# Altium footprint library PcbLib1.PcbLib: 4 footprints
Each footprint in its own frame and in the unit in brackets; x right, y up, seen from the top. Pads: shape width x height; smd on the part's side, far side on the other; paste and mask are expansions set on the pad; w line width, h text height; cw(c..) or ccw(c..) is an arc to the next point about the centre after c.
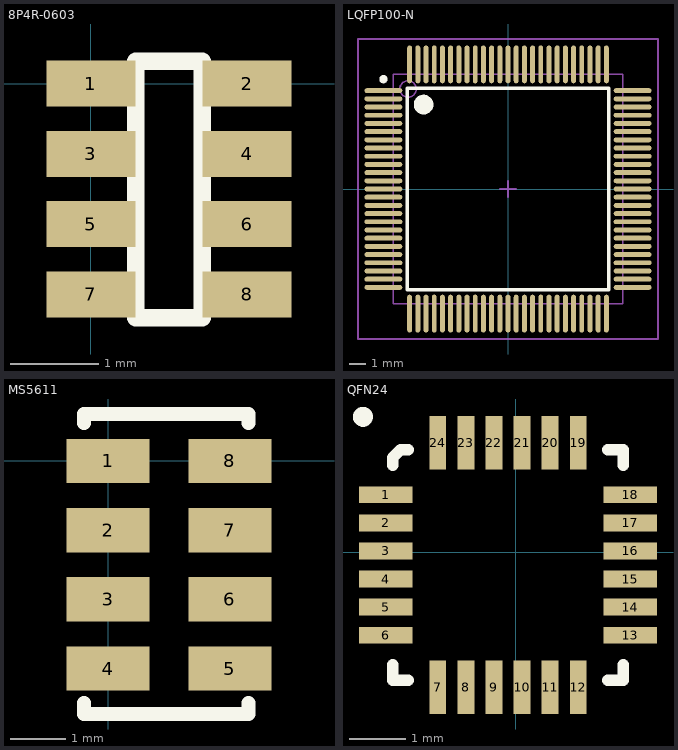
[diagram p0: the footprints below, top view; thin cyan lines are the x and y axes]

## 8P4R-0603 [mil]
pads (8):
  rect 40x20.62 smd: 1(0,0) 2(70,0) 3(0,-31.5) 4(70,-31.5) 5(0,-62.99) 6(70,-62.99) 7(0,-94.49) 8(70,-94.49)
Top Overlay:
  lines w7.87: 20,-105 50,-105 50,10 20,10 20,-105

## LQFP100-N [mm]
pads (100):
  oval 2.303x0.3 smd: 1(-7.6,6) 2(-7.6,5.5) 3(-7.6,5) 4(-7.6,4.5) 5(-7.6,4) 6(-7.6,3.5) 7(-7.6,3) 8(-7.6,2.5) 9(-7.6,2) 10(-7.6,1.5) 11(-7.6,1) 12(-7.6,0.5) 13(-7.6,0) 14(-7.6,-0.5) 15(-7.6,-1) 16(-7.6,-1.5) 17(-7.6,-2) 18(-7.6,-2.5) 19(-7.6,-3) 20(-7.6,-3.5) 21(-7.6,-4) 22(-7.6,-4.5) 23(-7.6,-5) 24(-7.6,-5.5) 25(-7.6,-6) 51(7.6,-6) 52(7.6,-5.5) 53(7.6,-5) 54(7.6,-4.5) 55(7.6,-4) 56(7.6,-3.5) 57(7.6,-3) 58(7.6,-2.5) 59(7.6,-2) 60(7.6,-1.5) 61(7.6,-1) 62(7.6,-0.5) 63(7.6,0) 64(7.6,0.5) 65(7.6,1) 66(7.6,1.5) 67(7.6,2) 68(7.6,2.5) 69(7.6,3) 70(7.6,3.5) 71(7.6,4) 72(7.6,4.5) 73(7.6,5) 74(7.6,5.5) 75(7.6,6)
  oval 0.3x2.303 smd: 26(-6,-7.6) 27(-5.5,-7.6) 28(-5,-7.6) 29(-4.5,-7.6) 30(-4,-7.6) 31(-3.5,-7.6) 32(-3,-7.6) 33(-2.5,-7.6) 34(-2,-7.6) 35(-1.5,-7.6) 36(-1,-7.6) 37(-0.5,-7.6) 38(0,-7.6) 39(0.5,-7.6) 40(1,-7.6) 41(1.5,-7.6) 42(2,-7.6) 43(2.5,-7.6) 44(3,-7.6) 45(3.5,-7.6) 46(4,-7.6) 47(4.5,-7.6) 48(5,-7.6) 49(5.5,-7.6) 50(6,-7.6) 76(6,7.6) 77(5.5,7.6) 78(5,7.6) 79(4.5,7.6) 80(4,7.6) 81(3.5,7.6) 82(3,7.6) 83(2.5,7.6) 84(2,7.6) 85(1.5,7.6) 86(1,7.6) 87(0.5,7.6) 88(0,7.6) 89(-0.5,7.6) 90(-1,7.6) 91(-1.5,7.6) 92(-2,7.6) 93(-2.5,7.6) 94(-3,7.6) 95(-3.5,7.6) 96(-4,7.6) 97(-4.5,7.6) 98(-5,7.6) 99(-5.5,7.6) 100(-6,7.6)
Top Overlay:
  circle w0.6: c-5.15,5.15 r0.3
  circle w0.25: c-7.6,6.7 r0.125
  lines w0.2: -6.15,-6.15 6.15,-6.15 6.15,6.15 -6.15,6.15 -6.15,-6.15
Mechanical 13:
  circle w0.1: c-6.1,6.1 r0.5
  lines w0.1: -7,-7 7,-7 7,7 -7,7 -7,-7
Mechanical 15:
  lines w0.1: -0.5,0 0.5,0 ; 0,-0.5 0,0.5 ; -9.15,-9.15 9.15,-9.15 9.15,9.15 -9.15,9.15 -9.15,-9.15
3D body: height 0.8, standoff 0, extent -7,-7 7,7

## MS5611 [mm]
pads (8):
  rect 1.5x0.8 smd: 1(0,0) 2(0,-1.25) 3(0,-2.5) 4(0,-3.75) 5(2.2,-3.75) 6(2.2,-2.5) 7(2.2,-1.25) 8(2.2,0)
Top Overlay:
  lines w0.254: -0.435,-4.372 -0.435,-4.572 2.54,-4.572 2.54,-4.372 ; -0.435,0.689 -0.435,0.849 2.54,0.849 2.54,0.689

## QFN24 [mm]
pads (24):
  rect 0.95x0.3 smd: 1(-2.312,1.027) 2(-2.312,0.527) 3(-2.312,0.027) 4(-2.312,-0.473) 5(-2.312,-0.973) 6(-2.312,-1.473) 13(2.038,-1.473) 14(2.038,-0.973) 15(2.038,-0.473) 16(2.038,0.027) 17(2.038,0.527) 18(2.038,1.027)
  rect 0.3x0.95 smd: 7(-1.387,-2.398) 8(-0.887,-2.398) 9(-0.387,-2.398) 10(0.113,-2.398) 11(0.613,-2.398) 12(1.113,-2.398) 19(1.113,1.952) 20(0.613,1.952) 21(0.113,1.952) 22(-0.387,1.952) 23(-0.887,1.952) 24(-1.387,1.952)
Top Overlay:
  circle w0.254: c-2.717,2.413 r0.05
  lines w0.2: -2.187,-1.998 -2.187,-2.273 -1.912,-2.273 ; -2.187,1.552 -2.187,1.69 -2.05,1.827 -1.912,1.827 ; 1.638,-2.273 1.913,-2.273 1.913,-1.998 ; 1.638,1.827 1.913,1.827 1.913,1.552
3D body: height 0.89, standoff 0, extent -2.159,-2.286 1.905,1.778